# EAGLE library part LM2594-VOLTAGE_REGULATOR (library LW_DUB)
Step-Down Voltage Regulator 150kHz / 500 mA Source: https://www.distrelec.ch/ishop/Datasheets/joLM2594xxx-xx_e.pdf
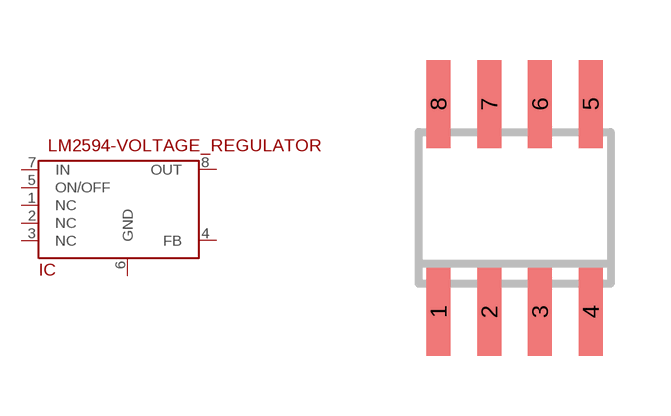
[diagram p3: symbol with the pads of SO08; footprint SO08]

Designator prefix IC

## LM2594-VOLTAGE_REGULATOR  [SO08]
1  NC  nc
2  NC  nc
3  NC  nc
4  FB  in
5  ON/OFF  pas
6  GND  in
7  IN  in
8  OUT  out

## Footprint SO08 (pad centres in mm)
Small Outline Package 8 NS Package M08A
smd 0.6 x 2.2: 1 -1.905,-2.6; 2 -0.635,-2.6; 3 0.635,-2.6; 4 1.905,-2.6; 5 1.905,2.6; 6 0.635,2.6; 7 -0.635,2.6; 8 -1.905,2.6